# Altium schematic symbol library Drone.SchLib: 11 symbols
Pins are listed as number, name and electrical type; pins without a type are passive.

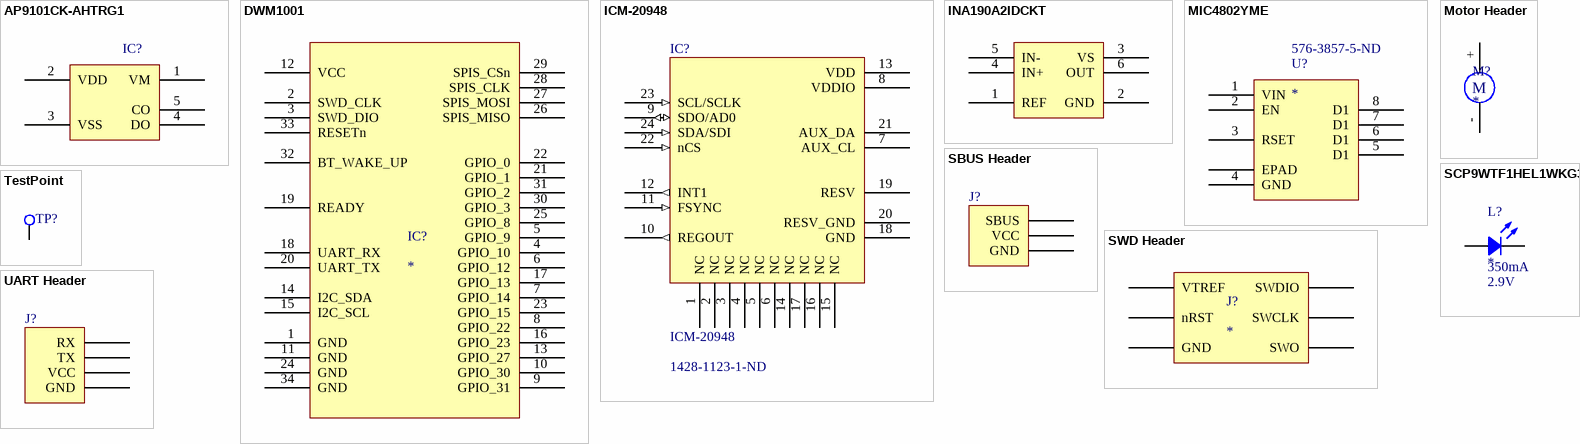
[diagram p0: symbols AP9101CK-AHTRG1 to UART Header]

## AP9101CK-AHTRG1
designator IC?  (value not drawn)
IC BATT PROT LI-ION 1-CELL SOT25; Manufacturer: Diodes; Manufacturer Part Number: AP9101CK-AHTRG1; Number of Cells: 1; Fault Protection: Over Current,Over Voltage; Supplier 1: Digi-Key; RoHS: Yes; Category: Battery Management; Stock 1: 1598; Pricing 1: 1=0.44000, 10=0.35300, 100=0.20250, 500=0.18750, 1000=0.12750 (USD); Case/Package: SOT-25; Min Operating Temperature: -40°C; Max Operating Temperature: 85°C; Packaging: Tape and Reel; ComponentLink1URL: http://www.mouser.com/ds/2/115/AP9101C-776313.pdf?src-supplier=Mouser; ComponentLink1Description: http://www.mouser.com/ds/2/115/AP9101C-776313.pdf?src-supplier=Mouser; ComponentLink2URL: https://www.diodes.com/assets/Datasheets/AP9101C.pdf?src-supplier=Digi-Key; ComponentLink2Description: https://www.diodes.com/assets/Datasheets/AP9101C.pdf?src-supplier=Digi-Key; Supplier Part Number 1: AP9101CK-AHTRG1DICT-ND
footprint SOT95P285X140-5N (SOT23, 5-Leads, Body 3.00x2.85mm, Pitch 0.95mm, IPC Medium Density)
pins: 1 VM, 2 VDD, 3 VSS, 4 DO, 5 CO

## DWM1001
designator IC?
RF TXRX MODULE UWB/BLUETOOTH RTL; Manufacturer: DecaWave; Manufacturer Part Number: DWM1001; Interface: I2C,SPI,UART; Frequency: 6.5GHz; Data Rate: 6.8Mbps; Supplier 1: Digi-Key; RoHS: No; Mount: Surface Mount; Case/Package: SMD/SMT; Packaging: Tape and Reel; ComponentLink1URL: https://www.decawave.com/sites/default/files/dwm1001_system_overview.pdf?src-supplier=Digi-Key; ComponentLink1Description: https://www.decawave.com/sites/default/files/dwm1001_system_overview.pdf?src-supplier=Digi-Key; Supplier Part Number 1: 1479-1004-2-ND
footprint DWM1001
pins: 1 GND, 2 SWD_CLK, 3 SWD_DIO, 4 GPIO_10, 5 GPIO_9, 6 GPIO_12, 7 GPIO_14, 8 GPIO_22, 9 GPIO_31, 10 GPIO_30, 11 GND, 12 VCC, 13 GPIO_27, 14 I2C_SDA, 15 I2C_SCL, 16 GPIO_23, 17 GPIO_13, 18 UART_RX, 19 READY, 20 UART_TX, 21 GPIO_1, 22 GPIO_0, 23 GPIO_15, 24 GND, 25 GPIO_8, 26 SPIS_MISO, 27 SPIS_MOSI, 28 SPIS_CLK, 29 SPIS_CSn, 30 GPIO_3, 31 GPIO_2, 32 BT_WAKE_UP, 33 RESETn, 34 GND

## ICM-20948
designator IC?  Supplier Part Number 1: 1428-1123-1-ND
Accelerometer, Gyroscope, Magnetometer, 9 Axis Sensor I²C, SPI Output; Vendor: InvenSense; SourceLibrary: InvenSense_2020-09-29; Datasheet: https://invensense.tdk.com/wp-content/uploads/2016/06/DS-000189-ICM-20948-v1.3.pdf?ref_disty=digikey; Manufacturer_Part_Number: ICM-20948; Copyright: Copyright (C) 2018 Accelerated Designs. All rights reserved; RefDes: RefDes; Type: DEV; Supplier 1: Digi-Key
footprint ICM-20948
pins: 1 NC, 2 NC, 3 NC, 4 NC, 5 NC, 6 NC, 7 AUX_CL, 8 VDDIO (power), 9 SDO/AD0 (io), 10 REGOUT (out), 11 FSYNC (in), 12 INT1 (out), 13 VDD (power), 14 NC, 15 NC, 16 NC, 17 NC, 18 GND, 19 RESV, 20 RESV_GND, 21 AUX_DA, 22 nCS (in), 23 SCL/SCLK (in), 24 SDA/SDI (in)

## INA190A2IDCKT
designator IC?  (value not drawn)
Precision Current-Sense Amplifier Bi-Directional 1-Channel 50V/V 1.7V to 5.5V 6-Pin SC-70 T/R; Manufacturer: Texas Instruments; Manufacturer Part Number: INA190A2IDCKT; Supplier 1: Digi-Key; RoHS: Yes; Category: Amplifiers - Op Amps, Buffer, Instrumentation; Stock 1: 103; Pricing 1: 1=3.20000, 10=2.87300, 25=2.71640, 100=2.23360 (USD); Supplier Part Number 1: 296-INA190A2IDCKTCT-ND
footprint SOT65P210X110-6N (SOT23, 6-Leads, Body 2.00x2.10mm, Pitch 0.65mm, IPC Medium Density)
pins: 1 REF, 2 GND, 3 VS, 4 IN+, 5 IN-, 6 OUT

## MIC4802YME
designator U?  Supplier Part Number 1: 576-3857-5-ND
MICREL SEMICONDUCTOR - MIC4802YME - LED DVR, 800MA, 1CH, 8SOIC; Manufacturer: Microchip; Supplier 1: Digi-Key; Manufacturer Part Number: MIC4802YME; RoHS: Yes; Category: LED Drivers; Stock 1: 593; Pricing 1: 1=0.90000, 25=0.75000, 100=0.68000 (USD); ComponentLink1URL: https://datasheet.ciiva.com/1604/1441850-1604702.pdf?src-supplier=Newark; ComponentLink1Description: https://datasheet.ciiva.com/1604/1441850-1604702.pdf?src-supplier=Newark; ComponentLink2URL: https://datasheet.ciiva.com/1946/mic4802-1946707.pdf?src-supplier=Digi-Key; ComponentLink2Description: https://datasheet.ciiva.com/1946/mic4802-1946707.pdf?src-supplier=Digi-Key; ComponentLink3URL: https://datasheet.ciiva.com/16351/mic4802-16351710.pdf?src-supplier=Future+Electronics; ComponentLink3Description: https://datasheet.ciiva.com/16351/mic4802-16351710.pdf?src-supplier=Future+Electronics
footprint SOIC127P610X160_HS-9N (SOIC, 8-Leads, Body 5.00x4.05mm, Pitch 1.27mm, Thermal Pad 3.10x2.41mm, IPC Medium Density)
pins: 1 VIN, 2 EN, 3 RSET, 4 GND, 5 D1, 6 D1, 7 D1, 8 D1, EPAD

## Motor Header
designator M?  (no BOM)
footprint Motor Header
pins: +, -
text: M

## SBUS Header
designator J?  (value not drawn)  (no BOM)
footprint SBUS Header
pins: GND, SBUS, VCC

## SCP9WTF1HEL1WKG34E
designator L?  Test Current: 350mA  Forward Voltage: 2.9V
LED Lighting LH181B White, Warm 2700K 2.9V 350mA 120° 2-SMD, No Lead; Manufacturer: Samsung; Manufacturer Part Number: SCP9WTF1HEL1WKG34E; Color Rendering Index (CRI): 90; Max Current Rating: 1.4A; Viewing Angle: 110°; Thermal Resistance of Package: 2°C/W; Supplier 1: Digi-Key; RoHS: No; Category: LEDs; Stock 1: 12970; Pricing 1: 1=0.70000, 10=0.45900, 100=0.30060, 1000=0.23730 (USD); Mount: Surface Mount; Case/Package: SMD/SMT; Color: White; Packaging: Tape and Reel; ComponentLink1URL: https://cdn.samsung.com/led/file/resource/2018/08/Data_Sheet_LH181B_Rev.3.4.pdf?src-supplier=Digi-Key; ComponentLink1Description: https://cdn.samsung.com/led/file/resource/2018/08/Data_Sheet_LH181B_Rev.3.4.pdf?src-supplier=Digi-Key; Supplier Part Number 1: 1510-2252-1-ND; Correlated Color Temperature (CCT): 2700K
footprint LED (Chip Diode, 2-Leads, Body 2.36x2.36mm, IPC Medium Density)
pins: Anode 1, Cathode 2

## SWD Header
designator J?  (no BOM)
footprint SWD Header
pins: GND, nRST, SWCLK, SWDIO, SWO, VTREF

## TestPoint
designator TP?  (value not drawn)  (no BOM)
footprint TestPoint
pins: 1

## UART Header
designator J?  (value not drawn)  (no BOM)
footprint UART Header
pins: GND, RX, TX, VCC